# Altium schematic symbol library Trans_Coilcraft_DA2319-ALC.SchLib: 1 symbol
Pins are listed as number, name and electrical type; pins without a type are passive.

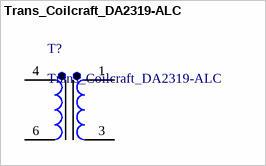
[diagram p0: symbol Trans_Coilcraft_DA2319-ALC]

## Trans_Coilcraft_DA2319-ALC
designator T?
pins: 1, 3, 4, 6